# Altium footprint library DSC1123CI1-027P0000.PcbLib: 1 footprints
Each footprint in its own frame and in the unit in brackets; x right, y up, seen from the top. Pads: shape width x height; smd on the part's side, far side on the other; paste and mask are expansions set on the pad; w line width, h text height; cw(c..) or ccw(c..) is an arc to the next point about the centre after c.
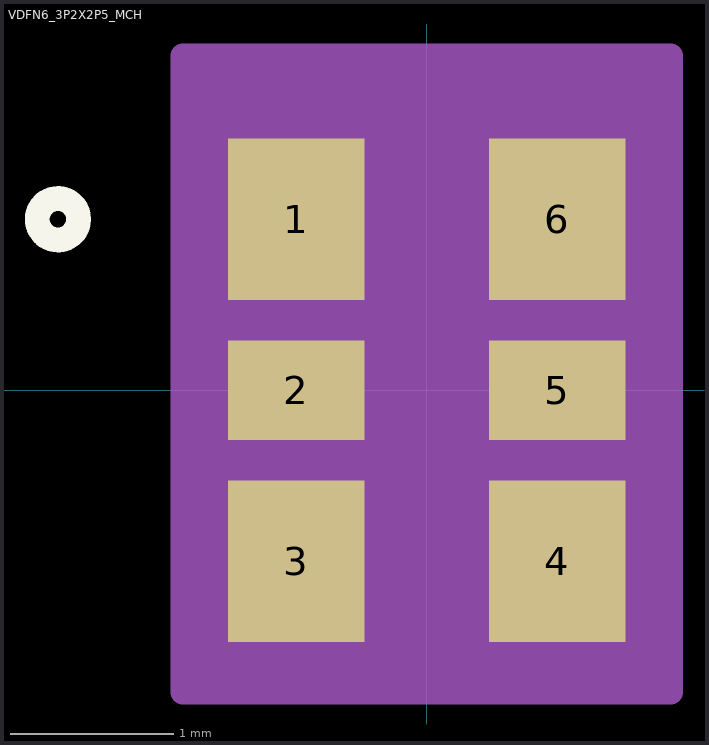
[diagram p0: the footprint, top view; thin cyan lines are the x and y axes]

## VDFN6_3P2X2P5_MCH [mil]
pads (6):
  rect 33x39 smd paste+0 mask+0: 1(-31.5,41.34) 3(-31.5,-41.34) 4(31.5,-41.34) 6(31.5,41.34)
  rect 33x24 smd paste+0 mask+0: 2(-31.5,0) 5(31.5,0)
Top Overlay:
  circle w6: c-89.17,41.34 r5
Mechanical 13:
  circle w0: c-15,41.34 r3
  lines w0: -12,63 ccw(c0,63) 12,63
  lines w1: -49,-63 49,-63 49,63 -49,63 -49,-63
Mechanical 15:
  region: -59,-70.84 -59,70.84 -59,80.84 59,80.84 59,70.84 59,-70.84 59,-73 -59,-73
  lines w6: -59,-70.84 -59,70.84 ; -59,-70.84 -59,-70.84 ; -59,-70.84 -59,-73 59,-73 59,-70.84 ; -59,70.84 -59,70.84 ; -59,70.84 -59,80.84 59,80.84 59,70.84 ; 59,-70.84 59,70.84 ; 59,-70.84 59,-70.84 ; 59,70.84 59,70.84
3D body "VDFN6_3P2X2P5_MCH.step": height 33.11, standoff 0, extent -49.02,-62.99 49.02,62.99